# Altium schematic symbol library GraphicSimple.SchLib: 6 symbols
Pins are listed as number, name and electrical type; pins without a type are passive.

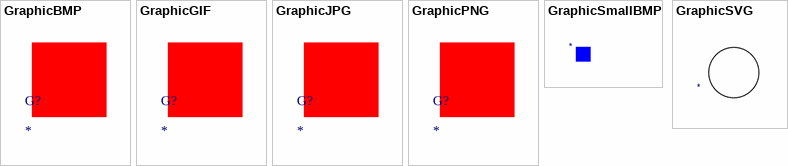
[diagram p0: symbols GraphicBMP to GraphicSVG]

## GraphicBMP
designator G?

## GraphicGIF
designator G?

## GraphicJPG
designator G?

## GraphicPNG
designator G?

## GraphicSmallBMP
designator *  (value not drawn)

## GraphicSVG
designator *  (value not drawn)